# EAGLE library part SIT9121AI-2B1-33E100.000000G (library SiT9121AI-2B1-33E100.000000G)
Standard Clock Oscillators 100MHz 3.3V LVDS 20ppm Source: Datasheet <https://componentsearchengine.com/Datasheets/1/SiT9121AI-2B1-33E100.000000G.pdf>
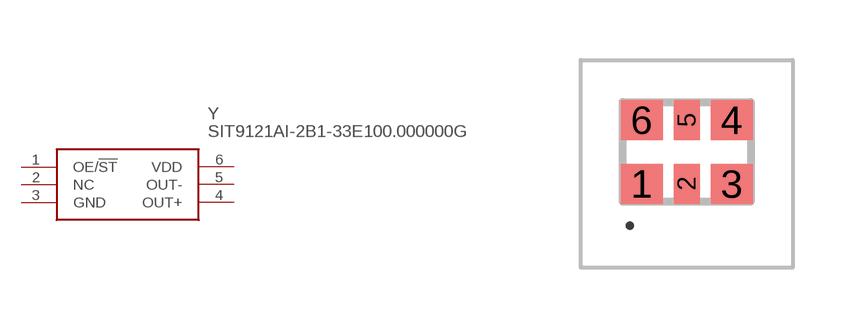
[diagram p0: symbol with the pads of SiT9121AI2B133E100000000G; footprint SiT9121AI2B133E100000000G]

Designator prefix Y

## SIT9121AI-2B1-33E100.000000G (Description: Standard Clock Oscillators 100MHz 3.3V LVDS 20ppm; Height: 0.8mm; Manufacturer_Name: SiTime; Manufacturer_Part_Number: SiT9121AI-2B1-33E100.000000G; Mouser_Part_Number: 788-9121AI-2B13E100G; Mouser_Price-Stock: https://www.mouser.co.uk/ProductDetail/SiTime/SiT9121AI-2B1-33E100.000000G?qs=H7WEQPD31y0dqSwuK04nsg%3D%3D)  [SiT9121AI2B133E100000000G]
1  OE/!ST
2  NC  nc
3  GND
4  OUT+
5  OUT-
6  VDD

## Footprint SiT9121AI2B133E100000000G (pad centres in mm)
SiT9121AI-2B1-33E100.000000G-3
smd 1.05 x 1: 1 -1.125,-0.8; 3 1.125,-0.8; 4 1.125,0.8; 6 -1.125,0.8
smd 0.65 x 1: 2 0,-0.8; 5 0,0.8